# EAGLE library part TXB0104 (library NewSDR)
4 Bit BiDirectional Voltage Level Translator
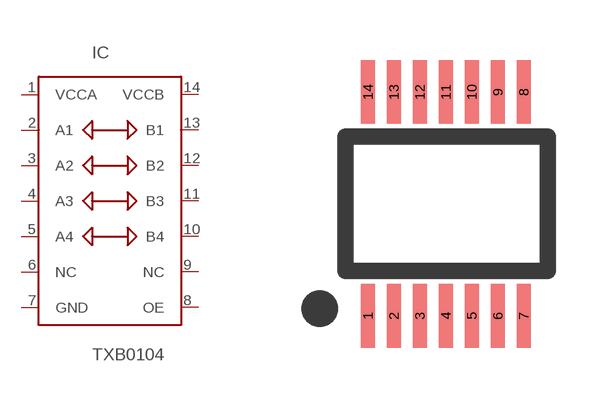
[diagram p175: symbol with the pads of TSSOP14; footprint TSSOP14]

Designator prefix IC

## TXB0104  [TSSOP14]
1  VCCA  pwr
2  A1
3  A2
4  A3
5  A4
6  NC  nc
7  GND  sup
8  OE  in
9  NC  nc
10  B4
11  B3
12  B2
13  B1
14  VCCB  pwr

## Footprint TSSOP14 (pad centres in mm)
Texas Instruments PW (R-PDSO-G14) TSSOP14
smd 0.35 x 1.6: 1 -1.95,-2.8; 2 -1.3,-2.8; 3 -0.65,-2.8; 4 0,-2.8; 5 0.65,-2.8; 6 1.3,-2.8; 7 1.95,-2.8; 8 1.95,2.8; 9 1.3,2.8; 10 0.65,2.8; 11 0,2.8; 12 -0.65,2.8; 13 -1.3,2.8; 14 -1.95,2.8